# Altium schematic symbol library Regulators.SchLib: 10 symbols
Pins are listed as number, name and electrical type; pins without a type are passive.

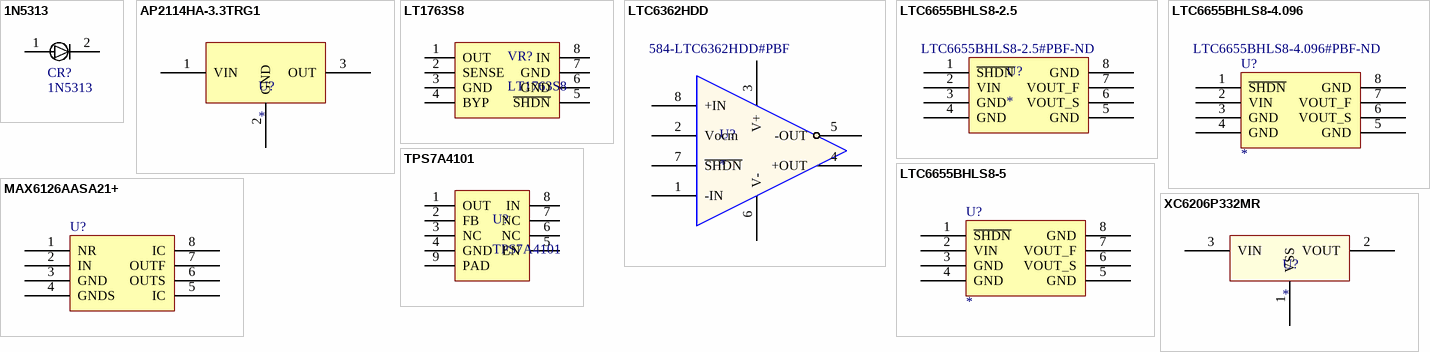
[diagram p0: symbols 1N5313 to XC6206P332MR]

## 1N5313
designator CR?
Supplier 1: Digi-Key; Supplier 2: Mouser; Supplier Part Number 1: BAV23S-TPMSCT-ND; Supplier Part Number 2: 833-BAV23S-TP
footprint DO-7-2
pins: 1, 2

## AP2114HA-3.3TRG1
designator U?
Supplier 1: Digi-Key; Supplier 2: Mouser; Supplier Part Number 1: AP2114HA-3.3TRG1DICT-ND; Supplier Part Number 2: 621-AP2114HA-3.3TRG1
footprint SOT-223 (Footprint not found)
pins: 1 VIN, 2 GND, 3 OUT

## LT1763S8
designator VR?
500mA, Low Noise, LDO Micropower Regulators
footprint SOIC-8 (SOIC, 8-Leads, Body 6.20x5.30mm, Pitch 1.27mm, IPC Medium Density)
pins: 1 OUT, 2 SENSE, 3 GND, 4 BYP, 5 ~{SHDN}, 6 GND, 7 GND, 8 IN

## LTC6362HDD
designator U?  Supplier Part Number 1: 584-LTC6362HDD#PBF
Supplier 1: Mouser
footprint DFN-8 (DFN, 8-Leads, Body 3.00x3.00mm, Pitch 0.50mm, Thermal Pad 1.65x1.65mm, IPC High Density)
pins: 1 -IN, 2 Vocm, 3 V+, 4 +OUT, 5 -OUT, 6 V-, 7 ~{SHDN}, 8 +IN

## LTC6655BHLS8-2.5
designator U?  Supplier Part Number 1: LTC6655BHLS8-2.5#PBF-ND
0.21ppm Noise, Low Drift / Precision Reference; Supplier 1: Digi-Key
footprint LS8 (Footprint not found)
pins: 1 ~{SHDN}, 2 VIN, 3 GND, 4 GND, 5 GND, 6 VOUT_S, 7 VOUT_F, 8 GND

## LTC6655BHLS8-4.096
designator U?  Supplier Part Number 1: LTC6655BHLS8-4.096#PBF-ND
0.21ppm Noise, Low Drift / Precision Reference; Supplier 1: Digi-Key
footprint LS8 (LS8,  8-Leads, Body 5.00x5.00mm, Pitch 0.50mm/1.27mm, IPC High Density)
pins: 1 ~{SHDN}, 2 VIN, 3 GND, 4 GND, 5 GND, 6 VOUT_S, 7 VOUT_F, 8 GND

## LTC6655BHLS8-5
designator U?
5V, 0.21ppm Noise, Low Drift / Precision Reference; Supplier 1: Mouser; Supplier 2: Digi-Key; Supplier Part Number 1: 584-C6655BHLS8-5PBF; Supplier Part Number 2: LTC6655BHLS8-5#PBF-ND
footprint LS8 (Footprint not found)
pins: 1 ~{SHDN}, 2 VIN, 3 GND, 4 GND, 5 GND, 6 VOUT_S, 7 VOUT_F, 8 GND

## MAX6126AASA21+
designator U?
Supplier 1: Mouser; Supplier 2: Digi-Key; Supplier Part Number 1: 700-MAX6126AASA21; Supplier Part Number 2: MAX6126AASA21+-ND
footprint SOIC-8 (Footprint not found)
pins: 1 NR, 2 IN, 3 GND, 4 GNDS, 5 IC, 6 OUTS, 7 OUTF, 8 IC

## TPS7A4101
designator U?
footprint HVSSOP-8 (Footprint not found)
pins: 1 OUT, 2 FB, 3 NC, 4 GND, 5 EN, 6 NC, 7 NC, 8 IN, 9 PAD

## XC6206P332MR
designator U?
footprint SOT23-3 (Footprint not found)
pins: 1 VSS, 2 VOUT, 3 VIN